# Altium schematic symbol library 74438356047HT.SchLib: 1 symbol
Pins are listed as number, name and electrical type; pins without a type are passive.

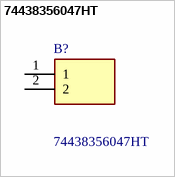
[diagram p0: symbol 74438356047HT]

## 74438356047HT
designator B?
WURTH ELEKTRONIK - 74438356047HT - Power Inductor (SMD), 4.7 H, 3 A, Shielded, 3.7 A, WE-MAPI Series, 4.1mm x 4.1mm x 2.1mm; Mouser Part Number: 710-74438356047HT; Mouser Price/Stock: https://www.mouser.co.uk/ProductDetail/Wurth-Elektronik/74438356047HT?qs=YwPsRIUVAOcmekVUpNwTmA%3D%3D; Manufacturer_Name: Wurth Elektronik; Manufacturer_Part_Number: 74438356047HT; Datasheet Link: https://www.we-online.com/catalog/datasheet/74438356047HT.pdf; Geometry.Height: 2.1mm
footprint INDPM4141X210N
pins: 1, 2